# EAGLE library part TXB0104 (library kmod-ics)
TI 4-bit bidirectional voltage translator
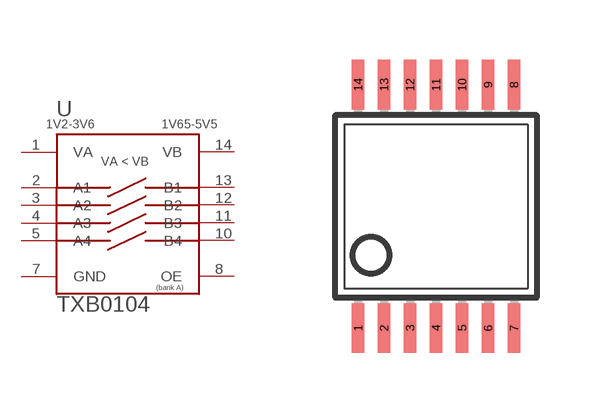
[diagram p12: symbol with the pads of TSSOP14; footprint TSSOP14]

Designator prefix -

## TXB0104PWR  [TSSOP14]
1  VA
2  A1
3  A2
4  A3
5  A4
7  GND
8  OE
10  B4
11  B3
12  B2
13  B1
14  VB

## Footprint TSSOP14 (pad centres in mm)
Thin Shrink Small Outline Plastic 14, 4.40mm width Forget where I copied from, but seems to work well. Could maybe make pads longer for easier hand-soldering. - ok made them longer by 10mil (0.25mm); they now stick past the end by about 0.5mm
smd 0.305 x 1.245: 1 -1.95,-3.045; 2 -1.3,-3.045; 3 -0.65,-3.045; 4 0,-3.045; 5 0.65,-3.045; 6 1.3,-3.045; 7 1.95,-3.045; 8 1.95,3.045; 9 1.3,3.045; 10 0.65,3.045; 11 0,3.045; 12 -0.65,3.045; 13 -1.3,3.045; 14 -1.95,3.045